# EAGLE library part MAZE (library bodger)
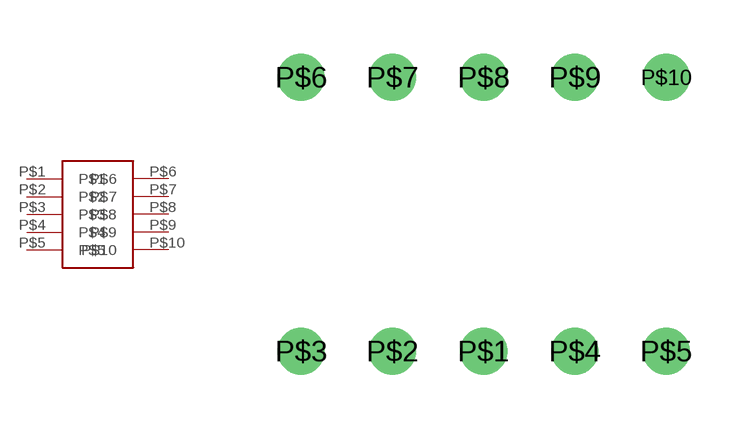
[diagram p36: symbol with the pads of MAZE; footprint MAZE]

Designator prefix -

## MAZE  [MAZE]
P$1  P$1
P$2  P$2
P$3  P$3
P$4  P$4
P$5  P$5
P$6  P$6
P$7  P$7
P$8  P$8
P$9  P$9
P$10  P$10

## Footprint MAZE (pad centres in mm)
drill 0.8: P$1 0,-3.81; P$2 -2.54,-3.81; P$3 -5.08,-3.81; P$4 2.54,-3.81; P$5 5.08,-3.81; P$6 -5.08,3.81; P$7 -2.54,3.81; P$8 0,3.81; P$9 2.54,3.81; P$10 5.08,3.81